# Altium schematic symbol library TPS25200.SchLib: 2 symbols
Pins are listed as number, name and electrical type; pins without a type are passive.

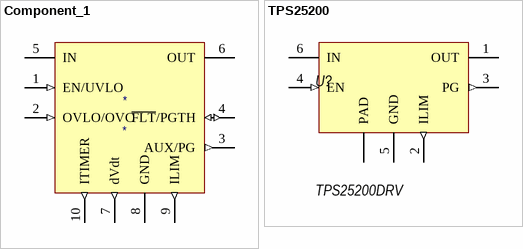
[diagram p0: symbols Component_1 to TPS25200]

## Component_1
designator *
pins: 1 EN/UVLO (in) "Enable pin. Pull High to enable the device. Pull Low to disable the device. This pin has an internal pull-down resistor of typically 400kohm when the device is disabled", 2 OVLO/OVC (in) "A Resistor Divider on this pin from supply to GND can be used to adjust.", 3 AUX/PG (out) "Power Good indication. This is an Open Drain signal which is asserted.", 4 ~{FLT}/PGTH (io) "Power Good Threshold.", 5 IN (power) "Input pin.", 6 OUT (power) "Output pin.", 7 dVdt (out) "A capacitor from this pin to GND sets the output turn on slew rate. Leave this pin floating", 8 GND (power), 9 ILIM (out) "Dual function pin used to limit and monitor the output current.", 10 ITIMER (out) "Dual function pin used to limit and monitor the output current."

## TPS25200
designator U?, comment TPS25200DRV
footprint WSON-6 (Footprint not found)
pins: 1 OUT (power) "Output pin.", 2 ILIM (out) "Dual function pin used to limit and monitor the output current.", 3 PG (out) "Power Good indication. This is an Open Drain signal which is asserted.", 4 EN (in) "Enable pin. Pull High to enable the device. Pull Low to disable the device. This pin has an internal pull-down resistor of typically 400kohm when the device is disabled", 5 GND (power), 6 IN (power) "Input pin.", PP PAD (power)